# Altium footprint library optic.PcbLib: 17 footprints (part 2 of 2)
Each footprint in its own frame and in the unit in brackets; x right, y up, seen from the top. Pads: shape width x height; smd on the part's side, far side on the other; paste and mask are expansions set on the pad; w line width, h text height; cw(c..) or ccw(c..) is an arc to the next point about the centre after c.
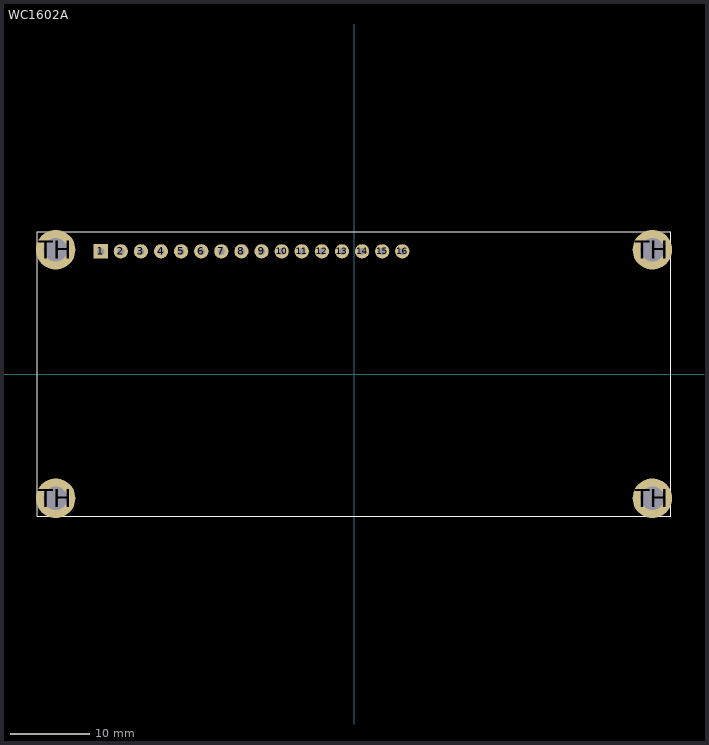
[diagram p1: the footprint, top view; thin cyan lines are the x and y axes]

## WC1602A [mm]
pads (20):
  rect 1.8x1.8 hole 0.9: 1(-32,15.5)
  round 1.8 hole 0.9: 2(-29.46,15.5) 3(-26.92,15.5) 4(-24.38,15.5) 5(-21.84,15.5) 6(-19.3,15.5) 7(-16.76,15.5) 8(-14.22,15.5) 9(-11.68,15.5) 10(-9.14,15.5) 11(-6.6,15.5) 12(-4.06,15.5) 13(-1.52,15.5) 14(1.02,15.5) 15(3.56,15.5) 16(6.1,15.5)
  round 5 hole 3: TH(-37.7,-15.7) TH(-37.7,15.7) TH(37.7,-15.7) TH(37.7,15.7)
Top Overlay:
  lines w0.15: -40,-18 40,-18 40,18 -40,18 -40,-18
3D body: height 5, standoff 0, extent 35.075,-18.075 40.326,-13.324
3D body: height 5, standoff 0, extent 35.075,13.325 40.326,18.076
3D body: height 5, standoff 0, extent -40.325,-18.075 -35.074,-13.324
3D body: height 5, standoff 0, extent -40.325,13.325 -35.074,18.076
3D body: height 15.4, standoff 2.5, extent -40,-18 40.25,18